# Altium integrated library Linear Technology Power Management System Supervisor, Monitor and Control.IntLib: 1611 symbols (part 8 of 100)
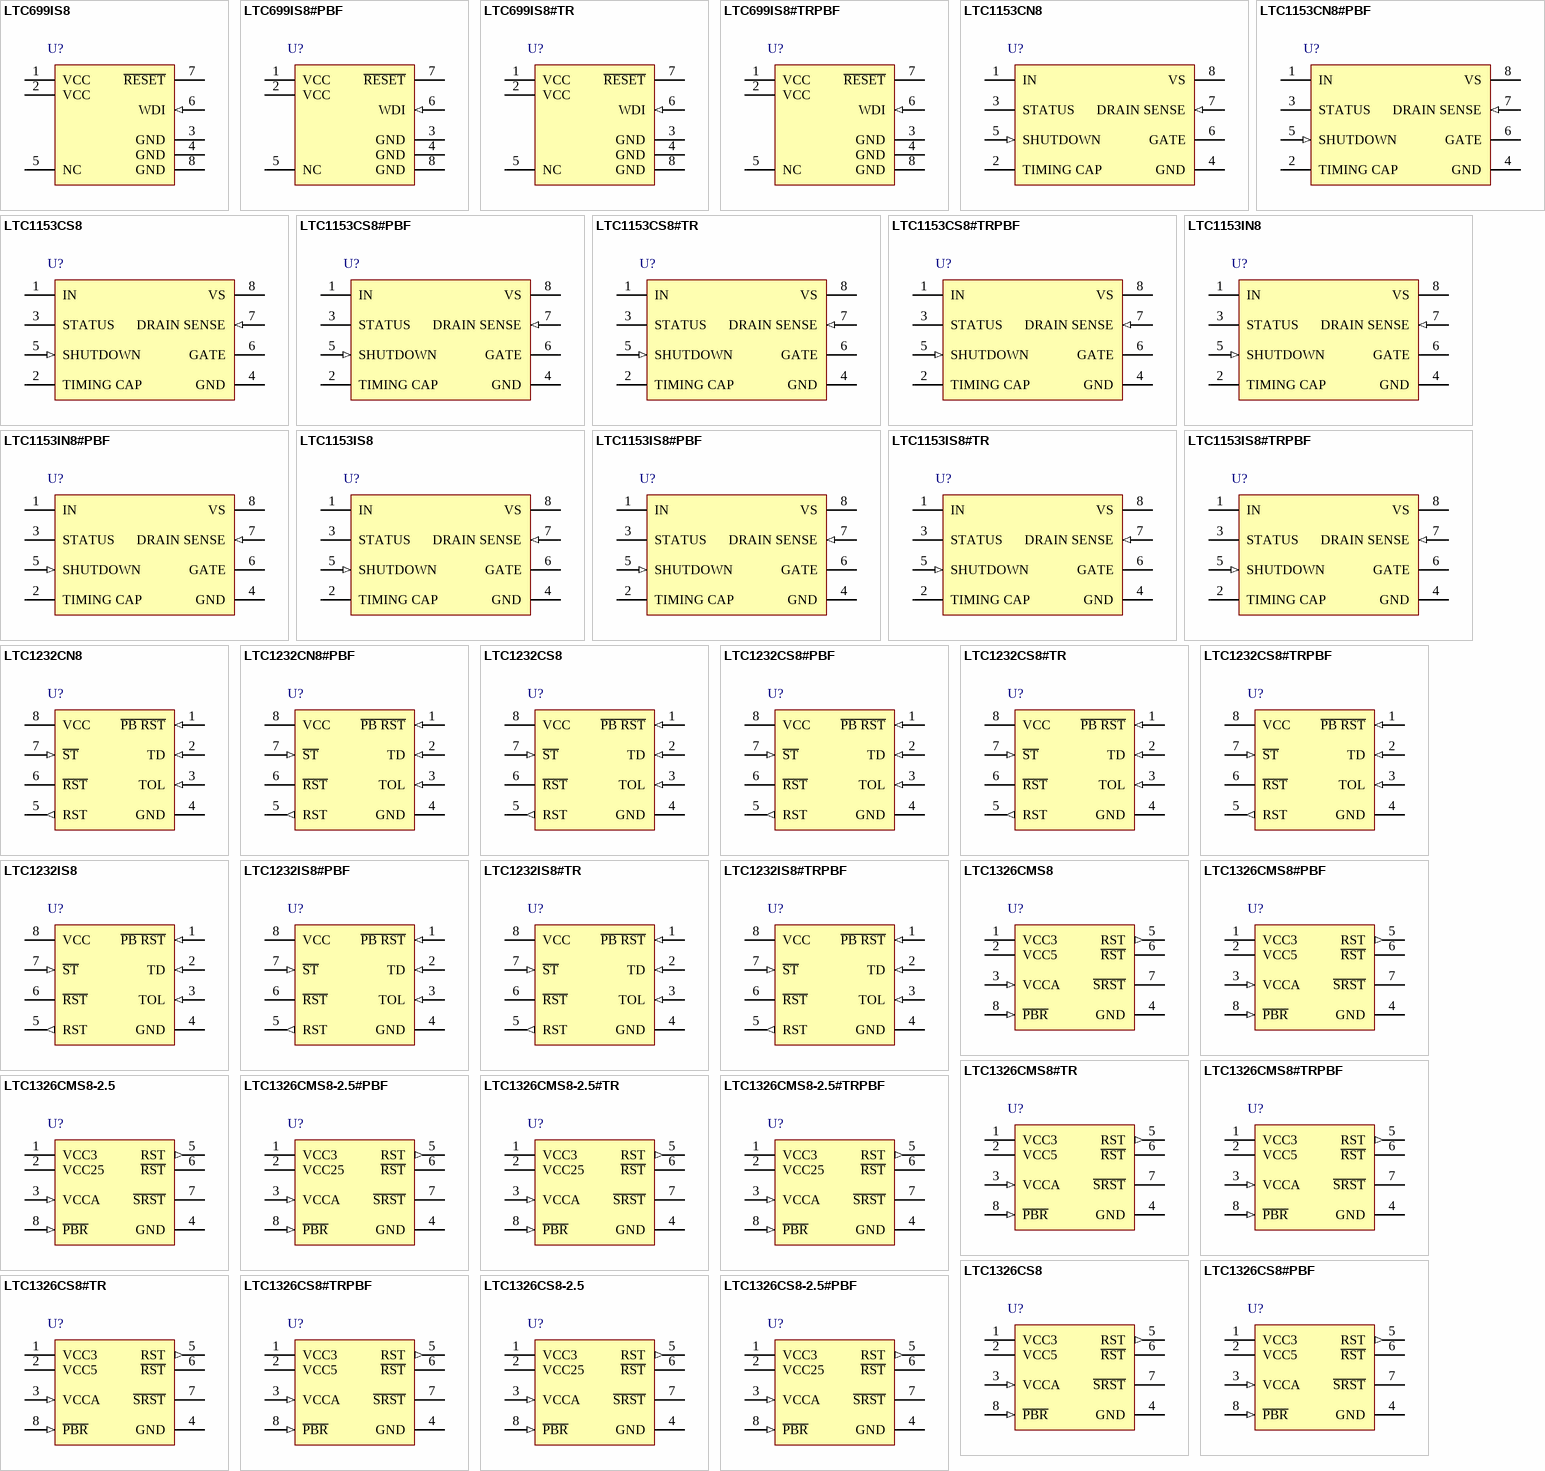
[diagram p52: symbols LTC699IS8 to LTC1326CS8-2.5#PBF]

## LTC1153CS8#PBF
designator U?
Auto-Reset Electronic Circuit Breaker, 8-pin SOIC (S8-8), 0 to 70 degC, Pb-Free; Manufacturer: Linear Technology; PartNumber: LTC1153CS8#PBF; Number of Supplies(#): 1; DatasheetVersion: Rev. 0; PackageVersion: Rev. G, 03/2012; PackageReference: S8-8; PackageDescription: 8-Pin Plastic Small Outline (Narrow .150 Inch), Body 4.9 x 3.9 mm, Pitch 1.27 mm; Supplier 1: Digi-Key; Supplier Part Number 1: LTC1153CS8#PBF-ND; Supplier 2: Farnell; Supplier Part Number 2: 1273503; Supplier 3: Newark; Supplier Part Number 3: 55M9422; RoHS: TRUE; Mounting Technology: Surface Mount; ComponentLink1Description: Manufacturer URL; ComponentLink1URL: http://www.linear.com/; ComponentLink2Description: Datasheet; ComponentLink2URL: http://cds.linear.com/docs/en/datasheet/lt1153.pdf; ComponentLink3Description: Package Specification; ComponentLink3URL: http://cds.linear.com/docs/en/packaging/05081610_G_SO8.pdf
footprint LT-S8-8_N (SOIC, 8-Leads, Body 5x4mm, Pitch 1.27mm, IPC Medium Density)
footprint LT-S8-8_L (SOIC, 8-Leads, Body 5x4mm, Pitch 1.27mm, IPC High Density)
footprint LT-S8-8_M (SOIC, 8-Leads, Body 5x4mm, Pitch 1.27mm, IPC Low Density)
pins: 1 IN (power) "The LTC1153 input pin is active high and activates all of the protection and charge pump circuitry when switched ON.", 2 TIMING CAP "The small capacitor charging current (4.2uA) produces large delays with relatively small valued capacitors, but care must be taken to ensure that this current is not shunted to ground through a leaky capacitor or printed (See Datasheet)", 3 STATUS (oc) "The status pin is an open-drain output which is driven low whenever the breaker is tripped. A 51k pull-up resistor should be connected between this output and a logic supply. The status pins of multiple LTC1153s can be (See Datasheet)", 4 GND (power), 5 SHUTDOWN (in) "The shutdown pin is designed to break the circuit if a secondary fault condition (over temperature, etc.) is detected. The LTC1153 logic and shutdown inputs are high impedance CMOS gates with ESD protection diodes to ground (See Datasheet)", 6 GATE (hiz) "The MOSFET gate drive pin is either driven to ground when the switch is turned OFF or driven above the supply rail when the switch is turned ON. This pin is a relatively high impedance when driven above the rail (the (See Datasheet)", 7 DRAIN SENSE (in) "The drain sense pin is compared against the supply pin voltage. If the voltage at this pin is more than 100mV below the supply pin, the input latch will trip and the MOSFET switch will be turned off. This pin is also a high (See Datasheet)", 8 VS (power) "The supply pin of the LTC1153 serves two vital purposes. The first is obvious: it powers the input, gate drive, regulation and protection circuitry. The second purpose is less obvious: it provides a Kelvin connection to the (See Datasheet)"

## LTC1153CS8#TR
designator U?
Auto-Reset Electronic Circuit Breaker, 8-pin SOIC (S8-8), 0 to 70 degC, Tape and Reel; Manufacturer: Linear Technology; PartNumber: LTC1153CS8#TR; Number of Supplies(#): 1; DatasheetVersion: Rev. 0; PackageVersion: Rev. G, 03/2012; PackageReference: S8-8; PackageDescription: 8-Pin Plastic Small Outline (Narrow .150 Inch), Body 4.9 x 3.9 mm, Pitch 1.27 mm; Supplier 1: Digi-Key; Supplier Part Number 1: LTC1153CS8#TR-ND; Packing: Tape and Reel; RoHS: FALSE; Mounting Technology: Surface Mount; ComponentLink1Description: Manufacturer URL; ComponentLink1URL: http://www.linear.com/; ComponentLink2Description: Datasheet; ComponentLink2URL: http://cds.linear.com/docs/en/datasheet/lt1153.pdf; ComponentLink3Description: Package Specification; ComponentLink3URL: http://cds.linear.com/docs/en/packaging/05081610_G_SO8.pdf
footprint LT-S8-8_N (SOIC, 8-Leads, Body 5x4mm, Pitch 1.27mm, IPC Medium Density)
footprint LT-S8-8_L (SOIC, 8-Leads, Body 5x4mm, Pitch 1.27mm, IPC High Density)
footprint LT-S8-8_M (SOIC, 8-Leads, Body 5x4mm, Pitch 1.27mm, IPC Low Density)
pins: 1 IN (power) "The LTC1153 input pin is active high and activates all of the protection and charge pump circuitry when switched ON.", 2 TIMING CAP "The small capacitor charging current (4.2uA) produces large delays with relatively small valued capacitors, but care must be taken to ensure that this current is not shunted to ground through a leaky capacitor or printed (See Datasheet)", 3 STATUS (oc) "The status pin is an open-drain output which is driven low whenever the breaker is tripped. A 51k pull-up resistor should be connected between this output and a logic supply. The status pins of multiple LTC1153s can be (See Datasheet)", 4 GND (power), 5 SHUTDOWN (in) "The shutdown pin is designed to break the circuit if a secondary fault condition (over temperature, etc.) is detected. The LTC1153 logic and shutdown inputs are high impedance CMOS gates with ESD protection diodes to ground (See Datasheet)", 6 GATE (hiz) "The MOSFET gate drive pin is either driven to ground when the switch is turned OFF or driven above the supply rail when the switch is turned ON. This pin is a relatively high impedance when driven above the rail (the (See Datasheet)", 7 DRAIN SENSE (in) "The drain sense pin is compared against the supply pin voltage. If the voltage at this pin is more than 100mV below the supply pin, the input latch will trip and the MOSFET switch will be turned off. This pin is also a high (See Datasheet)", 8 VS (power) "The supply pin of the LTC1153 serves two vital purposes. The first is obvious: it powers the input, gate drive, regulation and protection circuitry. The second purpose is less obvious: it provides a Kelvin connection to the (See Datasheet)"

## LTC1153CS8#TRPBF
designator U?
Auto-Reset Electronic Circuit Breaker, 8-pin SOIC (S8-8), 0 to 70 degC, Pb-Free, Tape and Reel; Manufacturer: Linear Technology; PartNumber: LTC1153CS8#TRPBF; Number of Supplies(#): 1; DatasheetVersion: Rev. 0; PackageVersion: Rev. G, 03/2012; PackageReference: S8-8; PackageDescription: 8-Pin Plastic Small Outline (Narrow .150 Inch), Body 4.9 x 3.9 mm, Pitch 1.27 mm; Supplier 1: Digi-Key; Supplier Part Number 1: LTC1153CS8#TRPBF-ND; Supplier 2: Newark; Supplier Part Number 2: 55M9424; Packing: Tape and Reel; RoHS: TRUE; Mounting Technology: Surface Mount; ComponentLink1Description: Manufacturer URL; ComponentLink1URL: http://www.linear.com/; ComponentLink2Description: Datasheet; ComponentLink2URL: http://cds.linear.com/docs/en/datasheet/lt1153.pdf; ComponentLink3Description: Package Specification; ComponentLink3URL: http://cds.linear.com/docs/en/packaging/05081610_G_SO8.pdf
footprint LT-S8-8_N (SOIC, 8-Leads, Body 5x4mm, Pitch 1.27mm, IPC Medium Density)
footprint LT-S8-8_L (SOIC, 8-Leads, Body 5x4mm, Pitch 1.27mm, IPC High Density)
footprint LT-S8-8_M (SOIC, 8-Leads, Body 5x4mm, Pitch 1.27mm, IPC Low Density)
pins: 1 IN (power) "The LTC1153 input pin is active high and activates all of the protection and charge pump circuitry when switched ON.", 2 TIMING CAP "The small capacitor charging current (4.2uA) produces large delays with relatively small valued capacitors, but care must be taken to ensure that this current is not shunted to ground through a leaky capacitor or printed (See Datasheet)", 3 STATUS (oc) "The status pin is an open-drain output which is driven low whenever the breaker is tripped. A 51k pull-up resistor should be connected between this output and a logic supply. The status pins of multiple LTC1153s can be (See Datasheet)", 4 GND (power), 5 SHUTDOWN (in) "The shutdown pin is designed to break the circuit if a secondary fault condition (over temperature, etc.) is detected. The LTC1153 logic and shutdown inputs are high impedance CMOS gates with ESD protection diodes to ground (See Datasheet)", 6 GATE (hiz) "The MOSFET gate drive pin is either driven to ground when the switch is turned OFF or driven above the supply rail when the switch is turned ON. This pin is a relatively high impedance when driven above the rail (the (See Datasheet)", 7 DRAIN SENSE (in) "The drain sense pin is compared against the supply pin voltage. If the voltage at this pin is more than 100mV below the supply pin, the input latch will trip and the MOSFET switch will be turned off. This pin is also a high (See Datasheet)", 8 VS (power) "The supply pin of the LTC1153 serves two vital purposes. The first is obvious: it powers the input, gate drive, regulation and protection circuitry. The second purpose is less obvious: it provides a Kelvin connection to the (See Datasheet)"

## LTC1153IN8
designator U?
Auto-Reset Electronic Circuit Breaker, 8-pin DIP (N8-8), -40 to 85 degC; Manufacturer: Linear Technology; PartNumber: LTC1153IN8; Number of Supplies(#): 1; DatasheetVersion: Rev. 0; PackageVersion: Rev. I, 07/2011; PackageReference: N8-8; PackageDescription: 8-Pin PDIP, Body 10.16 x 6.48 mm, Pitch 2.54 mm; Supplier 1: Digi-Key; Supplier Part Number 1: LTC1153IN8-ND; RoHS: FALSE; Mounting Technology: Through Hole; ComponentLink1Description: Manufacturer URL; ComponentLink1URL: http://www.linear.com/; ComponentLink2Description: Datasheet; ComponentLink2URL: http://cds.linear.com/docs/en/datasheet/lt1153.pdf; ComponentLink3Description: Package Specification; ComponentLink3URL: http://www.linear.com/docs/en/packaging/05081510_I_N8.pdf
footprint LT-N8-8 (DIP, 8-Leads, Body 10.15x6.85mm, Pitch 2.54mm)
pins: 1 IN (power) "The LTC1153 input pin is active high and activates all of the protection and charge pump circuitry when switched ON.", 2 TIMING CAP "The small capacitor charging current (4.2uA) produces large delays with relatively small valued capacitors, but care must be taken to ensure that this current is not shunted to ground through a leaky capacitor or printed (See Datasheet)", 3 STATUS (oc) "The status pin is an open-drain output which is driven low whenever the breaker is tripped. A 51k pull-up resistor should be connected between this output and a logic supply. The status pins of multiple LTC1153s can be (See Datasheet)", 4 GND (power), 5 SHUTDOWN (in) "The shutdown pin is designed to break the circuit if a secondary fault condition (over temperature, etc.) is detected. The LTC1153 logic and shutdown inputs are high impedance CMOS gates with ESD protection diodes to ground (See Datasheet)", 6 GATE (hiz) "The MOSFET gate drive pin is either driven to ground when the switch is turned OFF or driven above the supply rail when the switch is turned ON. This pin is a relatively high impedance when driven above the rail (the (See Datasheet)", 7 DRAIN SENSE (in) "The drain sense pin is compared against the supply pin voltage. If the voltage at this pin is more than 100mV below the supply pin, the input latch will trip and the MOSFET switch will be turned off. This pin is also a high (See Datasheet)", 8 VS (power) "The supply pin of the LTC1153 serves two vital purposes. The first is obvious: it powers the input, gate drive, regulation and protection circuitry. The second purpose is less obvious: it provides a Kelvin connection to the (See Datasheet)"

## LTC1153IN8#PBF
designator U?
Auto-Reset Electronic Circuit Breaker, 8-pin DIP (N8-8), -40 to 85 degC, Pb-Free; Manufacturer: Linear Technology; PartNumber: LTC1153IN8#PBF; Number of Supplies(#): 1; DatasheetVersion: Rev. 0; PackageVersion: Rev. I, 07/2011; PackageReference: N8-8; PackageDescription: 8-Pin PDIP, Body 10.16 x 6.48 mm, Pitch 2.54 mm; Supplier 1: Digi-Key; Supplier Part Number 1: LTC1153IN8#PBF-ND; RoHS: TRUE; Mounting Technology: Through Hole; ComponentLink1Description: Manufacturer URL; ComponentLink1URL: http://www.linear.com/; ComponentLink2Description: Datasheet; ComponentLink2URL: http://cds.linear.com/docs/en/datasheet/lt1153.pdf; ComponentLink3Description: Package Specification; ComponentLink3URL: http://www.linear.com/docs/en/packaging/05081510_I_N8.pdf
footprint LT-N8-8 (DIP, 8-Leads, Body 10.15x6.85mm, Pitch 2.54mm)
pins: 1 IN (power) "The LTC1153 input pin is active high and activates all of the protection and charge pump circuitry when switched ON.", 2 TIMING CAP "The small capacitor charging current (4.2uA) produces large delays with relatively small valued capacitors, but care must be taken to ensure that this current is not shunted to ground through a leaky capacitor or printed (See Datasheet)", 3 STATUS (oc) "The status pin is an open-drain output which is driven low whenever the breaker is tripped. A 51k pull-up resistor should be connected between this output and a logic supply. The status pins of multiple LTC1153s can be (See Datasheet)", 4 GND (power), 5 SHUTDOWN (in) "The shutdown pin is designed to break the circuit if a secondary fault condition (over temperature, etc.) is detected. The LTC1153 logic and shutdown inputs are high impedance CMOS gates with ESD protection diodes to ground (See Datasheet)", 6 GATE (hiz) "The MOSFET gate drive pin is either driven to ground when the switch is turned OFF or driven above the supply rail when the switch is turned ON. This pin is a relatively high impedance when driven above the rail (the (See Datasheet)", 7 DRAIN SENSE (in) "The drain sense pin is compared against the supply pin voltage. If the voltage at this pin is more than 100mV below the supply pin, the input latch will trip and the MOSFET switch will be turned off. This pin is also a high (See Datasheet)", 8 VS (power) "The supply pin of the LTC1153 serves two vital purposes. The first is obvious: it powers the input, gate drive, regulation and protection circuitry. The second purpose is less obvious: it provides a Kelvin connection to the (See Datasheet)"

## LTC1153IS8
designator U?
Auto-Reset Electronic Circuit Breaker, 8-pin SOIC (S8-8), -40 to 85 degC; Manufacturer: Linear Technology; PartNumber: LTC1153IS8; Number of Supplies(#): 1; DatasheetVersion: Rev. 0; PackageVersion: Rev. G, 03/2012; PackageReference: S8-8; PackageDescription: 8-Pin Plastic Small Outline (Narrow .150 Inch), Body 4.9 x 3.9 mm, Pitch 1.27 mm; Supplier 1: Digi-Key; Supplier Part Number 1: LTC1153IS8-ND; RoHS: FALSE; Mounting Technology: Surface Mount; ComponentLink1Description: Manufacturer URL; ComponentLink1URL: http://www.linear.com/; ComponentLink2Description: Datasheet; ComponentLink2URL: http://cds.linear.com/docs/en/datasheet/lt1153.pdf; ComponentLink3Description: Package Specification; ComponentLink3URL: http://cds.linear.com/docs/en/packaging/05081610_G_SO8.pdf
footprint LT-S8-8_N (SOIC, 8-Leads, Body 5x4mm, Pitch 1.27mm, IPC Medium Density)
footprint LT-S8-8_L (SOIC, 8-Leads, Body 5x4mm, Pitch 1.27mm, IPC High Density)
footprint LT-S8-8_M (SOIC, 8-Leads, Body 5x4mm, Pitch 1.27mm, IPC Low Density)
pins: 1 IN (power) "The LTC1153 input pin is active high and activates all of the protection and charge pump circuitry when switched ON.", 2 TIMING CAP "The small capacitor charging current (4.2uA) produces large delays with relatively small valued capacitors, but care must be taken to ensure that this current is not shunted to ground through a leaky capacitor or printed (See Datasheet)", 3 STATUS (oc) "The status pin is an open-drain output which is driven low whenever the breaker is tripped. A 51k pull-up resistor should be connected between this output and a logic supply. The status pins of multiple LTC1153s can be (See Datasheet)", 4 GND (power), 5 SHUTDOWN (in) "The shutdown pin is designed to break the circuit if a secondary fault condition (over temperature, etc.) is detected. The LTC1153 logic and shutdown inputs are high impedance CMOS gates with ESD protection diodes to ground (See Datasheet)", 6 GATE (hiz) "The MOSFET gate drive pin is either driven to ground when the switch is turned OFF or driven above the supply rail when the switch is turned ON. This pin is a relatively high impedance when driven above the rail (the (See Datasheet)", 7 DRAIN SENSE (in) "The drain sense pin is compared against the supply pin voltage. If the voltage at this pin is more than 100mV below the supply pin, the input latch will trip and the MOSFET switch will be turned off. This pin is also a high (See Datasheet)", 8 VS (power) "The supply pin of the LTC1153 serves two vital purposes. The first is obvious: it powers the input, gate drive, regulation and protection circuitry. The second purpose is less obvious: it provides a Kelvin connection to the (See Datasheet)"

## LTC1153IS8#PBF
designator U?
Auto-Reset Electronic Circuit Breaker, 8-pin SOIC (S8-8), -40 to 85 degC, Pb-Free; Manufacturer: Linear Technology; PartNumber: LTC1153IS8#PBF; Number of Supplies(#): 1; DatasheetVersion: Rev. 0; PackageVersion: Rev. G, 03/2012; PackageReference: S8-8; PackageDescription: 8-Pin Plastic Small Outline (Narrow .150 Inch), Body 4.9 x 3.9 mm, Pitch 1.27 mm; Supplier 1: Digi-Key; Supplier Part Number 1: LTC1153IS8#PBF-ND; Supplier 2: Farnell; Supplier Part Number 2: 2295316; Supplier 3: Newark; Supplier Part Number 3: 55M9428; RoHS: TRUE; Mounting Technology: Surface Mount; ComponentLink1Description: Manufacturer URL; ComponentLink1URL: http://www.linear.com/; ComponentLink2Description: Datasheet; ComponentLink2URL: http://cds.linear.com/docs/en/datasheet/lt1153.pdf; ComponentLink3Description: Package Specification; ComponentLink3URL: http://cds.linear.com/docs/en/packaging/05081610_G_SO8.pdf
footprint LT-S8-8_N (SOIC, 8-Leads, Body 5x4mm, Pitch 1.27mm, IPC Medium Density)
footprint LT-S8-8_L (SOIC, 8-Leads, Body 5x4mm, Pitch 1.27mm, IPC High Density)
footprint LT-S8-8_M (SOIC, 8-Leads, Body 5x4mm, Pitch 1.27mm, IPC Low Density)
pins: 1 IN (power) "The LTC1153 input pin is active high and activates all of the protection and charge pump circuitry when switched ON.", 2 TIMING CAP "The small capacitor charging current (4.2uA) produces large delays with relatively small valued capacitors, but care must be taken to ensure that this current is not shunted to ground through a leaky capacitor or printed (See Datasheet)", 3 STATUS (oc) "The status pin is an open-drain output which is driven low whenever the breaker is tripped. A 51k pull-up resistor should be connected between this output and a logic supply. The status pins of multiple LTC1153s can be (See Datasheet)", 4 GND (power), 5 SHUTDOWN (in) "The shutdown pin is designed to break the circuit if a secondary fault condition (over temperature, etc.) is detected. The LTC1153 logic and shutdown inputs are high impedance CMOS gates with ESD protection diodes to ground (See Datasheet)", 6 GATE (hiz) "The MOSFET gate drive pin is either driven to ground when the switch is turned OFF or driven above the supply rail when the switch is turned ON. This pin is a relatively high impedance when driven above the rail (the (See Datasheet)", 7 DRAIN SENSE (in) "The drain sense pin is compared against the supply pin voltage. If the voltage at this pin is more than 100mV below the supply pin, the input latch will trip and the MOSFET switch will be turned off. This pin is also a high (See Datasheet)", 8 VS (power) "The supply pin of the LTC1153 serves two vital purposes. The first is obvious: it powers the input, gate drive, regulation and protection circuitry. The second purpose is less obvious: it provides a Kelvin connection to the (See Datasheet)"

## LTC1153IS8#TR
designator U?
Auto-Reset Electronic Circuit Breaker, 8-pin SOIC (S8-8), -40 to 85 degC, Tape and Reel; Manufacturer: Linear Technology; PartNumber: LTC1153IS8#TR; Number of Supplies(#): 1; DatasheetVersion: Rev. 0; PackageVersion: Rev. G, 03/2012; PackageReference: S8-8; PackageDescription: 8-Pin Plastic Small Outline (Narrow .150 Inch), Body 4.9 x 3.9 mm, Pitch 1.27 mm; Supplier 1: Digi-Key; Supplier Part Number 1: LTC1153IS8#TR-ND; Packing: Tape and Reel; RoHS: FALSE; Mounting Technology: Surface Mount; ComponentLink1Description: Manufacturer URL; ComponentLink1URL: http://www.linear.com/; ComponentLink2Description: Datasheet; ComponentLink2URL: http://cds.linear.com/docs/en/datasheet/lt1153.pdf; ComponentLink3Description: Package Specification; ComponentLink3URL: http://cds.linear.com/docs/en/packaging/05081610_G_SO8.pdf
footprint LT-S8-8_N (SOIC, 8-Leads, Body 5x4mm, Pitch 1.27mm, IPC Medium Density)
footprint LT-S8-8_L (SOIC, 8-Leads, Body 5x4mm, Pitch 1.27mm, IPC High Density)
footprint LT-S8-8_M (SOIC, 8-Leads, Body 5x4mm, Pitch 1.27mm, IPC Low Density)
pins: 1 IN (power) "The LTC1153 input pin is active high and activates all of the protection and charge pump circuitry when switched ON.", 2 TIMING CAP "The small capacitor charging current (4.2uA) produces large delays with relatively small valued capacitors, but care must be taken to ensure that this current is not shunted to ground through a leaky capacitor or printed (See Datasheet)", 3 STATUS (oc) "The status pin is an open-drain output which is driven low whenever the breaker is tripped. A 51k pull-up resistor should be connected between this output and a logic supply. The status pins of multiple LTC1153s can be (See Datasheet)", 4 GND (power), 5 SHUTDOWN (in) "The shutdown pin is designed to break the circuit if a secondary fault condition (over temperature, etc.) is detected. The LTC1153 logic and shutdown inputs are high impedance CMOS gates with ESD protection diodes to ground (See Datasheet)", 6 GATE (hiz) "The MOSFET gate drive pin is either driven to ground when the switch is turned OFF or driven above the supply rail when the switch is turned ON. This pin is a relatively high impedance when driven above the rail (the (See Datasheet)", 7 DRAIN SENSE (in) "The drain sense pin is compared against the supply pin voltage. If the voltage at this pin is more than 100mV below the supply pin, the input latch will trip and the MOSFET switch will be turned off. This pin is also a high (See Datasheet)", 8 VS (power) "The supply pin of the LTC1153 serves two vital purposes. The first is obvious: it powers the input, gate drive, regulation and protection circuitry. The second purpose is less obvious: it provides a Kelvin connection to the (See Datasheet)"

## LTC1153IS8#TRPBF
designator U?
Auto-Reset Electronic Circuit Breaker, 8-pin SOIC (S8-8), -40 to 85 degC, Pb-Free, Tape and Reel; Manufacturer: Linear Technology; PartNumber: LTC1153IS8#TRPBF; Number of Supplies(#): 1; DatasheetVersion: Rev. 0; PackageVersion: Rev. G, 03/2012; PackageReference: S8-8; PackageDescription: 8-Pin Plastic Small Outline (Narrow .150 Inch), Body 4.9 x 3.9 mm, Pitch 1.27 mm; Supplier 1: Digi-Key; Supplier Part Number 1: LTC1153IS8#TRPBF-ND; Supplier 2: Newark; Supplier Part Number 2: 55M9430; Packing: Tape and Reel; RoHS: TRUE; Mounting Technology: Surface Mount; ComponentLink1Description: Manufacturer URL; ComponentLink1URL: http://www.linear.com/; ComponentLink2Description: Datasheet; ComponentLink2URL: http://cds.linear.com/docs/en/datasheet/lt1153.pdf; ComponentLink3Description: Package Specification; ComponentLink3URL: http://cds.linear.com/docs/en/packaging/05081610_G_SO8.pdf
footprint LT-S8-8_N (SOIC, 8-Leads, Body 5x4mm, Pitch 1.27mm, IPC Medium Density)
footprint LT-S8-8_L (SOIC, 8-Leads, Body 5x4mm, Pitch 1.27mm, IPC High Density)
footprint LT-S8-8_M (SOIC, 8-Leads, Body 5x4mm, Pitch 1.27mm, IPC Low Density)
pins: 1 IN (power) "The LTC1153 input pin is active high and activates all of the protection and charge pump circuitry when switched ON.", 2 TIMING CAP "The small capacitor charging current (4.2uA) produces large delays with relatively small valued capacitors, but care must be taken to ensure that this current is not shunted to ground through a leaky capacitor or printed (See Datasheet)", 3 STATUS (oc) "The status pin is an open-drain output which is driven low whenever the breaker is tripped. A 51k pull-up resistor should be connected between this output and a logic supply. The status pins of multiple LTC1153s can be (See Datasheet)", 4 GND (power), 5 SHUTDOWN (in) "The shutdown pin is designed to break the circuit if a secondary fault condition (over temperature, etc.) is detected. The LTC1153 logic and shutdown inputs are high impedance CMOS gates with ESD protection diodes to ground (See Datasheet)", 6 GATE (hiz) "The MOSFET gate drive pin is either driven to ground when the switch is turned OFF or driven above the supply rail when the switch is turned ON. This pin is a relatively high impedance when driven above the rail (the (See Datasheet)", 7 DRAIN SENSE (in) "The drain sense pin is compared against the supply pin voltage. If the voltage at this pin is more than 100mV below the supply pin, the input latch will trip and the MOSFET switch will be turned off. This pin is also a high (See Datasheet)", 8 VS (power) "The supply pin of the LTC1153 serves two vital purposes. The first is obvious: it powers the input, gate drive, regulation and protection circuitry. The second purpose is less obvious: it provides a Kelvin connection to the (See Datasheet)"

## LTC1232CN8
designator U?
Push-Button input, 8-pin DIP (N8-8), 0 to 70 degC; Manufacturer: Linear Technology; PartNumber: LTC1232CN8; Number of Supplies(#): 1; DatasheetVersion: Rev. A; PackageVersion: Rev. I, 07/2011; PackageReference: N8-8; PackageDescription: 8-Pin PDIP, Body 10.16 x 6.48 mm, Pitch 2.54 mm; Supplier 1: Digi-Key; Supplier Part Number 1: LTC1232CN8-ND; Supplier 2: Newark; Supplier Part Number 2: 55M9682; RoHS: FALSE; Mounting Technology: Through Hole; ComponentLink1Description: Manufacturer URL; ComponentLink1URL: http://www.linear.com/; ComponentLink2Description: Datasheet; ComponentLink2URL: http://cds.linear.com/docs/en/datasheet/1232fas.pdf; ComponentLink3Description: Package Specification; ComponentLink3URL: http://www.linear.com/docs/en/packaging/05081510_I_N8.pdf
footprint LT-N8-8 (DIP, 8-Leads, Body 10.15x6.85mm, Pitch 2.54mm)
pins: 1 ~{PB RST} (in) "Logic Input to be Directly Connected to a Push- Button. The P\B\ \R\S\T\ input requires an active low signal which is debounced and timed for a minimum of 40ms. When this condition is satisfied, the reset pulse generator (See Datasheet)", 2 TD (in) "Time-Out Delay. TD is a three-level input to select three different time-out periods. The time-out period is set by the TD input to be 150ms with TD connected to GND, 600ms with TD left floating, and 1.2 seconds with TD (See Datasheet)", 3 TOL (in) "Input to Select 5% or 10% Variation on VCC. When TOL is connected to GND, the reset pulse generator forces the reset outputs to active states as VCC falls below 4.75V (4.62V typical). When TOL is connected to VCC, the reset (See Datasheet)", 4 GND (power) "Ground Pin.", 5 RST (out) "RST is an Active High Logic Output. It is the inverse of R\S\T\.", 6 ~{RST} (oc) "Open Drain Logic Output for uP Reset Control. The LTC1232 provides three ways to generate uP reset. First, when VCC falls below VCC trip point (4.75V with TOL = GND and 4.5V with TOL = VCC), R\S\T\ goes active low. After VCC (See Datasheet)", 7 ~{ST} (in) "Logic Input to Reset the Watchdog Timer. Driving S\T\ either high or low longer than the time-out period set by the TD input, forces the reset outputs to active states for a minimum of 250ms. The timer resets itself and (See Datasheet)", 8 VCC (power) "5V Supply Input. The VCC pin should be bypassed with a 0.1uF capacitor."

## LTC1232CN8#PBF
designator U?
Push-Button Input, 8-pin DIP (N8-8), 0 to 70 degC, Pb-Free; Manufacturer: Linear Technology; PartNumber: LTC1232CN8#PBF; Number of Supplies(#): 1; DatasheetVersion: Rev. A; PackageVersion: Rev. I, 07/2011; PackageReference: N8-8; PackageDescription: 8-Pin PDIP, Body 10.16 x 6.48 mm, Pitch 2.54 mm; Supplier 1: Digi-Key; Supplier Part Number 1: LTC1232CN8#PBF-ND; Supplier 2: Farnell; Supplier Part Number 2: 9560939; Supplier 3: Newark; Supplier Part Number 3: 55M9683; RoHS: TRUE; Mounting Technology: Through Hole; ComponentLink1Description: Manufacturer URL; ComponentLink1URL: http://www.linear.com/; ComponentLink2Description: Datasheet; ComponentLink2URL: http://cds.linear.com/docs/en/datasheet/1232fas.pdf; ComponentLink3Description: Package Specification; ComponentLink3URL: http://www.linear.com/docs/en/packaging/05081510_I_N8.pdf
footprint LT-N8-8 (DIP, 8-Leads, Body 10.15x6.85mm, Pitch 2.54mm)
pins: 1 ~{PB RST} (in) "Logic Input to be Directly Connected to a Push- Button. The P\B\ \R\S\T\ input requires an active low signal which is debounced and timed for a minimum of 40ms. When this condition is satisfied, the reset pulse generator (See Datasheet)", 2 TD (in) "Time-Out Delay. TD is a three-level input to select three different time-out periods. The time-out period is set by the TD input to be 150ms with TD connected to GND, 600ms with TD left floating, and 1.2 seconds with TD (See Datasheet)", 3 TOL (in) "Input to Select 5% or 10% Variation on VCC. When TOL is connected to GND, the reset pulse generator forces the reset outputs to active states as VCC falls below 4.75V (4.62V typical). When TOL is connected to VCC, the reset (See Datasheet)", 4 GND (power) "Ground Pin.", 5 RST (out) "RST is an Active High Logic Output. It is the inverse of R\S\T\.", 6 ~{RST} (oc) "Open Drain Logic Output for uP Reset Control. The LTC1232 provides three ways to generate uP reset. First, when VCC falls below VCC trip point (4.75V with TOL = GND and 4.5V with TOL = VCC), R\S\T\ goes active low. After VCC (See Datasheet)", 7 ~{ST} (in) "Logic Input to Reset the Watchdog Timer. Driving S\T\ either high or low longer than the time-out period set by the TD input, forces the reset outputs to active states for a minimum of 250ms. The timer resets itself and (See Datasheet)", 8 VCC (power) "5V Supply Input. The VCC pin should be bypassed with a 0.1uF capacitor."

## LTC1232CS8
designator U?
Push-Button Input, 8-pin SOIC (S8-8), 0 to 70 degC; Manufacturer: Linear Technology; PartNumber: LTC1232CS8; Number of Supplies(#): 1; DatasheetVersion: Rev. A; PackageVersion: Rev. G, 03/2012; PackageReference: S8-8; PackageDescription: 8-Pin Plastic Small Outline (Narrow .150 Inch), Body 4.9 x 3.9 mm, Pitch 1.27 mm; Supplier 1: Digi-Key; Supplier Part Number 1: LTC1232CS8-ND; Supplier 2: Newark; Supplier Part Number 2: 55M9684; RoHS: FALSE; Mounting Technology: Surface Mount; ComponentLink1Description: Manufacturer URL; ComponentLink1URL: http://www.linear.com/; ComponentLink2Description: Datasheet; ComponentLink2URL: http://cds.linear.com/docs/en/datasheet/1232fas.pdf; ComponentLink3Description: Package Specification; ComponentLink3URL: http://cds.linear.com/docs/en/packaging/05081610_G_SO8.pdf
footprint LT-S8-8_N (SOIC, 8-Leads, Body 5x4mm, Pitch 1.27mm, IPC Medium Density)
footprint LT-S8-8_L (SOIC, 8-Leads, Body 5x4mm, Pitch 1.27mm, IPC High Density)
footprint LT-S8-8_M (SOIC, 8-Leads, Body 5x4mm, Pitch 1.27mm, IPC Low Density)
pins: 1 ~{PB RST} (in) "Logic Input to be Directly Connected to a Push- Button. The P\B\ \R\S\T\ input requires an active low signal which is debounced and timed for a minimum of 40ms. When this condition is satisfied, the reset pulse generator (See Datasheet)", 2 TD (in) "Time-Out Delay. TD is a three-level input to select three different time-out periods. The time-out period is set by the TD input to be 150ms with TD connected to GND, 600ms with TD left floating, and 1.2 seconds with TD (See Datasheet)", 3 TOL (in) "Input to Select 5% or 10% Variation on VCC. When TOL is connected to GND, the reset pulse generator forces the reset outputs to active states as VCC falls below 4.75V (4.62V typical). When TOL is connected to VCC, the reset (See Datasheet)", 4 GND (power) "Ground Pin.", 5 RST (out) "RST is an Active High Logic Output. It is the inverse of R\S\T\.", 6 ~{RST} (oc) "Open Drain Logic Output for uP Reset Control. The LTC1232 provides three ways to generate uP reset. First, when VCC falls below VCC trip point (4.75V with TOL = GND and 4.5V with TOL = VCC), R\S\T\ goes active low. After VCC (See Datasheet)", 7 ~{ST} (in) "Logic Input to Reset the Watchdog Timer. Driving S\T\ either high or low longer than the time-out period set by the TD input, forces the reset outputs to active states for a minimum of 250ms. The timer resets itself and (See Datasheet)", 8 VCC (power) "5V Supply Input. The VCC pin should be bypassed with a 0.1uF capacitor."

## LTC1232CS8#PBF
designator U?
Push-Button Input, 8-pin SOIC (S8-8), 0 to 70 degC, Pb-Free; Manufacturer: Linear Technology; PartNumber: LTC1232CS8#PBF; Number of Supplies(#): 1; DatasheetVersion: Rev. A; PackageVersion: Rev. G, 03/2012; PackageReference: S8-8; PackageDescription: 8-Pin Plastic Small Outline (Narrow .150 Inch), Body 4.9 x 3.9 mm, Pitch 1.27 mm; Supplier 1: Digi-Key; Supplier Part Number 1: LTC1232CS8#PBF-ND; Supplier 2: Farnell; Supplier Part Number 2: 1663606; Supplier 3: Newark; Supplier Part Number 3: 55M9685; RoHS: TRUE; Mounting Technology: Surface Mount; ComponentLink1Description: Manufacturer URL; ComponentLink1URL: http://www.linear.com/; ComponentLink2Description: Datasheet; ComponentLink2URL: http://cds.linear.com/docs/en/datasheet/1232fas.pdf; ComponentLink3Description: Package Specification; ComponentLink3URL: http://cds.linear.com/docs/en/packaging/05081610_G_SO8.pdf
footprint LT-S8-8_N (SOIC, 8-Leads, Body 5x4mm, Pitch 1.27mm, IPC Medium Density)
footprint LT-S8-8_L (SOIC, 8-Leads, Body 5x4mm, Pitch 1.27mm, IPC High Density)
footprint LT-S8-8_M (SOIC, 8-Leads, Body 5x4mm, Pitch 1.27mm, IPC Low Density)
pins: 1 ~{PB RST} (in) "Logic Input to be Directly Connected to a Push- Button. The P\B\ \R\S\T\ input requires an active low signal which is debounced and timed for a minimum of 40ms. When this condition is satisfied, the reset pulse generator (See Datasheet)", 2 TD (in) "Time-Out Delay. TD is a three-level input to select three different time-out periods. The time-out period is set by the TD input to be 150ms with TD connected to GND, 600ms with TD left floating, and 1.2 seconds with TD (See Datasheet)", 3 TOL (in) "Input to Select 5% or 10% Variation on VCC. When TOL is connected to GND, the reset pulse generator forces the reset outputs to active states as VCC falls below 4.75V (4.62V typical). When TOL is connected to VCC, the reset (See Datasheet)", 4 GND (power) "Ground Pin.", 5 RST (out) "RST is an Active High Logic Output. It is the inverse of R\S\T\.", 6 ~{RST} (oc) "Open Drain Logic Output for uP Reset Control. The LTC1232 provides three ways to generate uP reset. First, when VCC falls below VCC trip point (4.75V with TOL = GND and 4.5V with TOL = VCC), R\S\T\ goes active low. After VCC (See Datasheet)", 7 ~{ST} (in) "Logic Input to Reset the Watchdog Timer. Driving S\T\ either high or low longer than the time-out period set by the TD input, forces the reset outputs to active states for a minimum of 250ms. The timer resets itself and (See Datasheet)", 8 VCC (power) "5V Supply Input. The VCC pin should be bypassed with a 0.1uF capacitor."

## LTC1232CS8#TR
designator U?
Push-Button Input, 8-pin SOIC (S8-8), 0 to 70 degC, Tape and Reel; Manufacturer: Linear Technology; PartNumber: LTC1232CS8#TR; Number of Supplies(#): 1; DatasheetVersion: Rev. A; PackageVersion: Rev. G, 03/2012; PackageReference: S8-8; PackageDescription: 8-Pin Plastic Small Outline (Narrow .150 Inch), Body 4.9 x 3.9 mm, Pitch 1.27 mm; Supplier 1: Digi-Key; Supplier Part Number 1: LTC1232CS8#TR-ND; Packing: Tape and Reel; RoHS: FALSE; Mounting Technology: Surface Mount; ComponentLink1Description: Manufacturer URL; ComponentLink1URL: http://www.linear.com/; ComponentLink2Description: Datasheet; ComponentLink2URL: http://cds.linear.com/docs/en/datasheet/1232fas.pdf; ComponentLink3Description: Package Specification; ComponentLink3URL: http://cds.linear.com/docs/en/packaging/05081610_G_SO8.pdf
footprint LT-S8-8_N (SOIC, 8-Leads, Body 5x4mm, Pitch 1.27mm, IPC Medium Density)
footprint LT-S8-8_L (SOIC, 8-Leads, Body 5x4mm, Pitch 1.27mm, IPC High Density)
footprint LT-S8-8_M (SOIC, 8-Leads, Body 5x4mm, Pitch 1.27mm, IPC Low Density)
pins: 1 ~{PB RST} (in) "Logic Input to be Directly Connected to a Push- Button. The P\B\ \R\S\T\ input requires an active low signal which is debounced and timed for a minimum of 40ms. When this condition is satisfied, the reset pulse generator (See Datasheet)", 2 TD (in) "Time-Out Delay. TD is a three-level input to select three different time-out periods. The time-out period is set by the TD input to be 150ms with TD connected to GND, 600ms with TD left floating, and 1.2 seconds with TD (See Datasheet)", 3 TOL (in) "Input to Select 5% or 10% Variation on VCC. When TOL is connected to GND, the reset pulse generator forces the reset outputs to active states as VCC falls below 4.75V (4.62V typical). When TOL is connected to VCC, the reset (See Datasheet)", 4 GND (power) "Ground Pin.", 5 RST (out) "RST is an Active High Logic Output. It is the inverse of R\S\T\.", 6 ~{RST} (oc) "Open Drain Logic Output for uP Reset Control. The LTC1232 provides three ways to generate uP reset. First, when VCC falls below VCC trip point (4.75V with TOL = GND and 4.5V with TOL = VCC), R\S\T\ goes active low. After VCC (See Datasheet)", 7 ~{ST} (in) "Logic Input to Reset the Watchdog Timer. Driving S\T\ either high or low longer than the time-out period set by the TD input, forces the reset outputs to active states for a minimum of 250ms. The timer resets itself and (See Datasheet)", 8 VCC (power) "5V Supply Input. The VCC pin should be bypassed with a 0.1uF capacitor."

## LTC1232CS8#TRPBF
designator U?
Push-Button Input, 8-pin SOIC (S8-8), 0 to 70 degC, Pb-Free, Tape and Reel; Manufacturer: Linear Technology; PartNumber: LTC1232CS8#TRPBF; Number of Supplies(#): 1; DatasheetVersion: Rev. A; PackageVersion: Rev. G, 03/2012; PackageReference: S8-8; PackageDescription: 8-Pin Plastic Small Outline (Narrow .150 Inch), Body 4.9 x 3.9 mm, Pitch 1.27 mm; Supplier 1: Digi-Key; Supplier Part Number 1: LTC1232CS8#TRPBF-ND; Supplier 2: Newark; Supplier Part Number 2: 55M9687; Packing: Tape and Reel; RoHS: TRUE; Mounting Technology: Surface Mount; ComponentLink1Description: Manufacturer URL; ComponentLink1URL: http://www.linear.com/; ComponentLink2Description: Datasheet; ComponentLink2URL: http://cds.linear.com/docs/en/datasheet/1232fas.pdf; ComponentLink3Description: Package Specification; ComponentLink3URL: http://cds.linear.com/docs/en/packaging/05081610_G_SO8.pdf
footprint LT-S8-8_N (SOIC, 8-Leads, Body 5x4mm, Pitch 1.27mm, IPC Medium Density)
footprint LT-S8-8_L (SOIC, 8-Leads, Body 5x4mm, Pitch 1.27mm, IPC High Density)
footprint LT-S8-8_M (SOIC, 8-Leads, Body 5x4mm, Pitch 1.27mm, IPC Low Density)
pins: 1 ~{PB RST} (in) "Logic Input to be Directly Connected to a Push- Button. The P\B\ \R\S\T\ input requires an active low signal which is debounced and timed for a minimum of 40ms. When this condition is satisfied, the reset pulse generator (See Datasheet)", 2 TD (in) "Time-Out Delay. TD is a three-level input to select three different time-out periods. The time-out period is set by the TD input to be 150ms with TD connected to GND, 600ms with TD left floating, and 1.2 seconds with TD (See Datasheet)", 3 TOL (in) "Input to Select 5% or 10% Variation on VCC. When TOL is connected to GND, the reset pulse generator forces the reset outputs to active states as VCC falls below 4.75V (4.62V typical). When TOL is connected to VCC, the reset (See Datasheet)", 4 GND (power) "Ground Pin.", 5 RST (out) "RST is an Active High Logic Output. It is the inverse of R\S\T\.", 6 ~{RST} (oc) "Open Drain Logic Output for uP Reset Control. The LTC1232 provides three ways to generate uP reset. First, when VCC falls below VCC trip point (4.75V with TOL = GND and 4.5V with TOL = VCC), R\S\T\ goes active low. After VCC (See Datasheet)", 7 ~{ST} (in) "Logic Input to Reset the Watchdog Timer. Driving S\T\ either high or low longer than the time-out period set by the TD input, forces the reset outputs to active states for a minimum of 250ms. The timer resets itself and (See Datasheet)", 8 VCC (power) "5V Supply Input. The VCC pin should be bypassed with a 0.1uF capacitor."

## LTC1232IS8
designator U?
Push-Button Input, 8-pin SOIC (S8-8), -40 to 85 degC; Manufacturer: Linear Technology; PartNumber: LTC1232IS8; Number of Supplies(#): 1; DatasheetVersion: Rev. A; PackageVersion: Rev. G, 03/2012; PackageReference: S8-8; PackageDescription: 8-Pin Plastic Small Outline (Narrow .150 Inch), Body 4.9 x 3.9 mm, Pitch 1.27 mm; Supplier 1: Digi-Key; Supplier Part Number 1: LTC1232IS8-ND; Supplier 2: Newark; Supplier Part Number 2: 55M9688; RoHS: FALSE; Mounting Technology: Surface Mount; ComponentLink1Description: Manufacturer URL; ComponentLink1URL: http://www.linear.com/; ComponentLink2Description: Datasheet; ComponentLink2URL: http://cds.linear.com/docs/en/datasheet/1232fas.pdf; ComponentLink3Description: Package Specification; ComponentLink3URL: http://cds.linear.com/docs/en/packaging/05081610_G_SO8.pdf
footprint LT-S8-8_N (SOIC, 8-Leads, Body 5x4mm, Pitch 1.27mm, IPC Medium Density)
footprint LT-S8-8_L (SOIC, 8-Leads, Body 5x4mm, Pitch 1.27mm, IPC High Density)
footprint LT-S8-8_M (SOIC, 8-Leads, Body 5x4mm, Pitch 1.27mm, IPC Low Density)
pins: 1 ~{PB RST} (in) "Logic Input to be Directly Connected to a Push- Button. The P\B\ \R\S\T\ input requires an active low signal which is debounced and timed for a minimum of 40ms. When this condition is satisfied, the reset pulse generator (See Datasheet)", 2 TD (in) "Time-Out Delay. TD is a three-level input to select three different time-out periods. The time-out period is set by the TD input to be 150ms with TD connected to GND, 600ms with TD left floating, and 1.2 seconds with TD (See Datasheet)", 3 TOL (in) "Input to Select 5% or 10% Variation on VCC. When TOL is connected to GND, the reset pulse generator forces the reset outputs to active states as VCC falls below 4.75V (4.62V typical). When TOL is connected to VCC, the reset (See Datasheet)", 4 GND (power) "Ground Pin.", 5 RST (out) "RST is an Active High Logic Output. It is the inverse of R\S\T\.", 6 ~{RST} (oc) "Open Drain Logic Output for uP Reset Control. The LTC1232 provides three ways to generate uP reset. First, when VCC falls below VCC trip point (4.75V with TOL = GND and 4.5V with TOL = VCC), R\S\T\ goes active low. After VCC (See Datasheet)", 7 ~{ST} (in) "Logic Input to Reset the Watchdog Timer. Driving S\T\ either high or low longer than the time-out period set by the TD input, forces the reset outputs to active states for a minimum of 250ms. The timer resets itself and (See Datasheet)", 8 VCC (power) "5V Supply Input. The VCC pin should be bypassed with a 0.1uF capacitor."

## LTC1232IS8#PBF
designator U?
Push-Button Input, 8-pin SOIC (S8-8), -40 to 85 degC, Pb-Free; Manufacturer: Linear Technology; PartNumber: LTC1232IS8#PBF; Number of Supplies(#): 1; DatasheetVersion: Rev. A; PackageVersion: Rev. G, 03/2012; PackageReference: S8-8; PackageDescription: 8-Pin Plastic Small Outline (Narrow .150 Inch), Body 4.9 x 3.9 mm, Pitch 1.27 mm; Supplier 1: Digi-Key; Supplier Part Number 1: LTC1232IS8#PBF-ND; Supplier 2: Farnell; Supplier Part Number 2: 2295381; Supplier 3: Newark; Supplier Part Number 3: 55M9689; RoHS: TRUE; Mounting Technology: Surface Mount; ComponentLink1Description: Manufacturer URL; ComponentLink1URL: http://www.linear.com/; ComponentLink2Description: Datasheet; ComponentLink2URL: http://cds.linear.com/docs/en/datasheet/1232fas.pdf; ComponentLink3Description: Package Specification; ComponentLink3URL: http://cds.linear.com/docs/en/packaging/05081610_G_SO8.pdf
footprint LT-S8-8_N (SOIC, 8-Leads, Body 5x4mm, Pitch 1.27mm, IPC Medium Density)
footprint LT-S8-8_L (SOIC, 8-Leads, Body 5x4mm, Pitch 1.27mm, IPC High Density)
footprint LT-S8-8_M (SOIC, 8-Leads, Body 5x4mm, Pitch 1.27mm, IPC Low Density)
pins: 1 ~{PB RST} (in) "Logic Input to be Directly Connected to a Push- Button. The P\B\ \R\S\T\ input requires an active low signal which is debounced and timed for a minimum of 40ms. When this condition is satisfied, the reset pulse generator (See Datasheet)", 2 TD (in) "Time-Out Delay. TD is a three-level input to select three different time-out periods. The time-out period is set by the TD input to be 150ms with TD connected to GND, 600ms with TD left floating, and 1.2 seconds with TD (See Datasheet)", 3 TOL (in) "Input to Select 5% or 10% Variation on VCC. When TOL is connected to GND, the reset pulse generator forces the reset outputs to active states as VCC falls below 4.75V (4.62V typical). When TOL is connected to VCC, the reset (See Datasheet)", 4 GND (power) "Ground Pin.", 5 RST (out) "RST is an Active High Logic Output. It is the inverse of R\S\T\.", 6 ~{RST} (oc) "Open Drain Logic Output for uP Reset Control. The LTC1232 provides three ways to generate uP reset. First, when VCC falls below VCC trip point (4.75V with TOL = GND and 4.5V with TOL = VCC), R\S\T\ goes active low. After VCC (See Datasheet)", 7 ~{ST} (in) "Logic Input to Reset the Watchdog Timer. Driving S\T\ either high or low longer than the time-out period set by the TD input, forces the reset outputs to active states for a minimum of 250ms. The timer resets itself and (See Datasheet)", 8 VCC (power) "5V Supply Input. The VCC pin should be bypassed with a 0.1uF capacitor."

## LTC1232IS8#TR
designator U?
Push-Button Input, 8-pin SOIC (S8-8), -40 to 85 degC, Tape and Reel; Manufacturer: Linear Technology; PartNumber: LTC1232IS8#TR; Number of Supplies(#): 1; DatasheetVersion: Rev. A; PackageVersion: Rev. G, 03/2012; PackageReference: S8-8; PackageDescription: 8-Pin Plastic Small Outline (Narrow .150 Inch), Body 4.9 x 3.9 mm, Pitch 1.27 mm; Supplier 1: Digi-Key; Supplier Part Number 1: LTC1232IS8#TR-ND; Supplier 2: Newark; Supplier Part Number 2: 55M9690; Packing: Tape and Reel; RoHS: FALSE; Mounting Technology: Surface Mount; ComponentLink1Description: Manufacturer URL; ComponentLink1URL: http://www.linear.com/; ComponentLink2Description: Datasheet; ComponentLink2URL: http://cds.linear.com/docs/en/datasheet/1232fas.pdf; ComponentLink3Description: Package Specification; ComponentLink3URL: http://cds.linear.com/docs/en/packaging/05081610_G_SO8.pdf
footprint LT-S8-8_N (SOIC, 8-Leads, Body 5x4mm, Pitch 1.27mm, IPC Medium Density)
footprint LT-S8-8_L (SOIC, 8-Leads, Body 5x4mm, Pitch 1.27mm, IPC High Density)
footprint LT-S8-8_M (SOIC, 8-Leads, Body 5x4mm, Pitch 1.27mm, IPC Low Density)
pins: 1 ~{PB RST} (in) "Logic Input to be Directly Connected to a Push- Button. The P\B\ \R\S\T\ input requires an active low signal which is debounced and timed for a minimum of 40ms. When this condition is satisfied, the reset pulse generator (See Datasheet)", 2 TD (in) "Time-Out Delay. TD is a three-level input to select three different time-out periods. The time-out period is set by the TD input to be 150ms with TD connected to GND, 600ms with TD left floating, and 1.2 seconds with TD (See Datasheet)", 3 TOL (in) "Input to Select 5% or 10% Variation on VCC. When TOL is connected to GND, the reset pulse generator forces the reset outputs to active states as VCC falls below 4.75V (4.62V typical). When TOL is connected to VCC, the reset (See Datasheet)", 4 GND (power) "Ground Pin.", 5 RST (out) "RST is an Active High Logic Output. It is the inverse of R\S\T\.", 6 ~{RST} (oc) "Open Drain Logic Output for uP Reset Control. The LTC1232 provides three ways to generate uP reset. First, when VCC falls below VCC trip point (4.75V with TOL = GND and 4.5V with TOL = VCC), R\S\T\ goes active low. After VCC (See Datasheet)", 7 ~{ST} (in) "Logic Input to Reset the Watchdog Timer. Driving S\T\ either high or low longer than the time-out period set by the TD input, forces the reset outputs to active states for a minimum of 250ms. The timer resets itself and (See Datasheet)", 8 VCC (power) "5V Supply Input. The VCC pin should be bypassed with a 0.1uF capacitor."